# EAGLE library part POLOLU_A4983 (library JoesCustom)
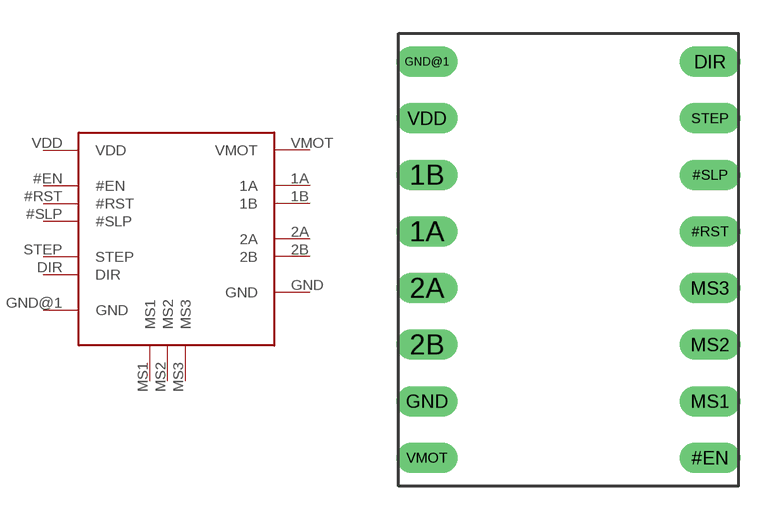
[diagram p11: symbol with the pads of POLOLU_A4983; footprint POLOLU_A4983]

Designator prefix -

## POLOLU_A4983  [POLOLU_A4983]
1A  1A
1B  1B
2A  2A
2B  2B
#EN  #EN
#RST  #RST
#SLP  #SLP
DIR  DIR
GND  GND
GND@1  GND
MS1  MS1
MS2  MS2
MS3  MS3
STEP  STEP
VDD  VDD
VMOT  VMOT

## Footprint POLOLU_A4983 (pad centres in mm)
drill 0.864 long: 1A -6.35,1.27; 1B -6.35,3.81; 2A -6.35,-1.27; 2B -6.35,-3.81; #EN 6.35,-8.89; #RST 6.35,1.27; #SLP 6.35,3.81; DIR 6.35,8.89; GND -6.35,-6.35; GND@1 -6.35,8.89; MS1 6.35,-6.35; MS2 6.35,-3.81; MS3 6.35,-1.27; STEP 6.35,6.35; VDD -6.35,6.35; VMOT -6.35,-8.89